# Altium schematic symbol library outros_SCHLIB.SchLib: 42 symbols
Pins are listed as number, name and electrical type; pins without a type are passive.

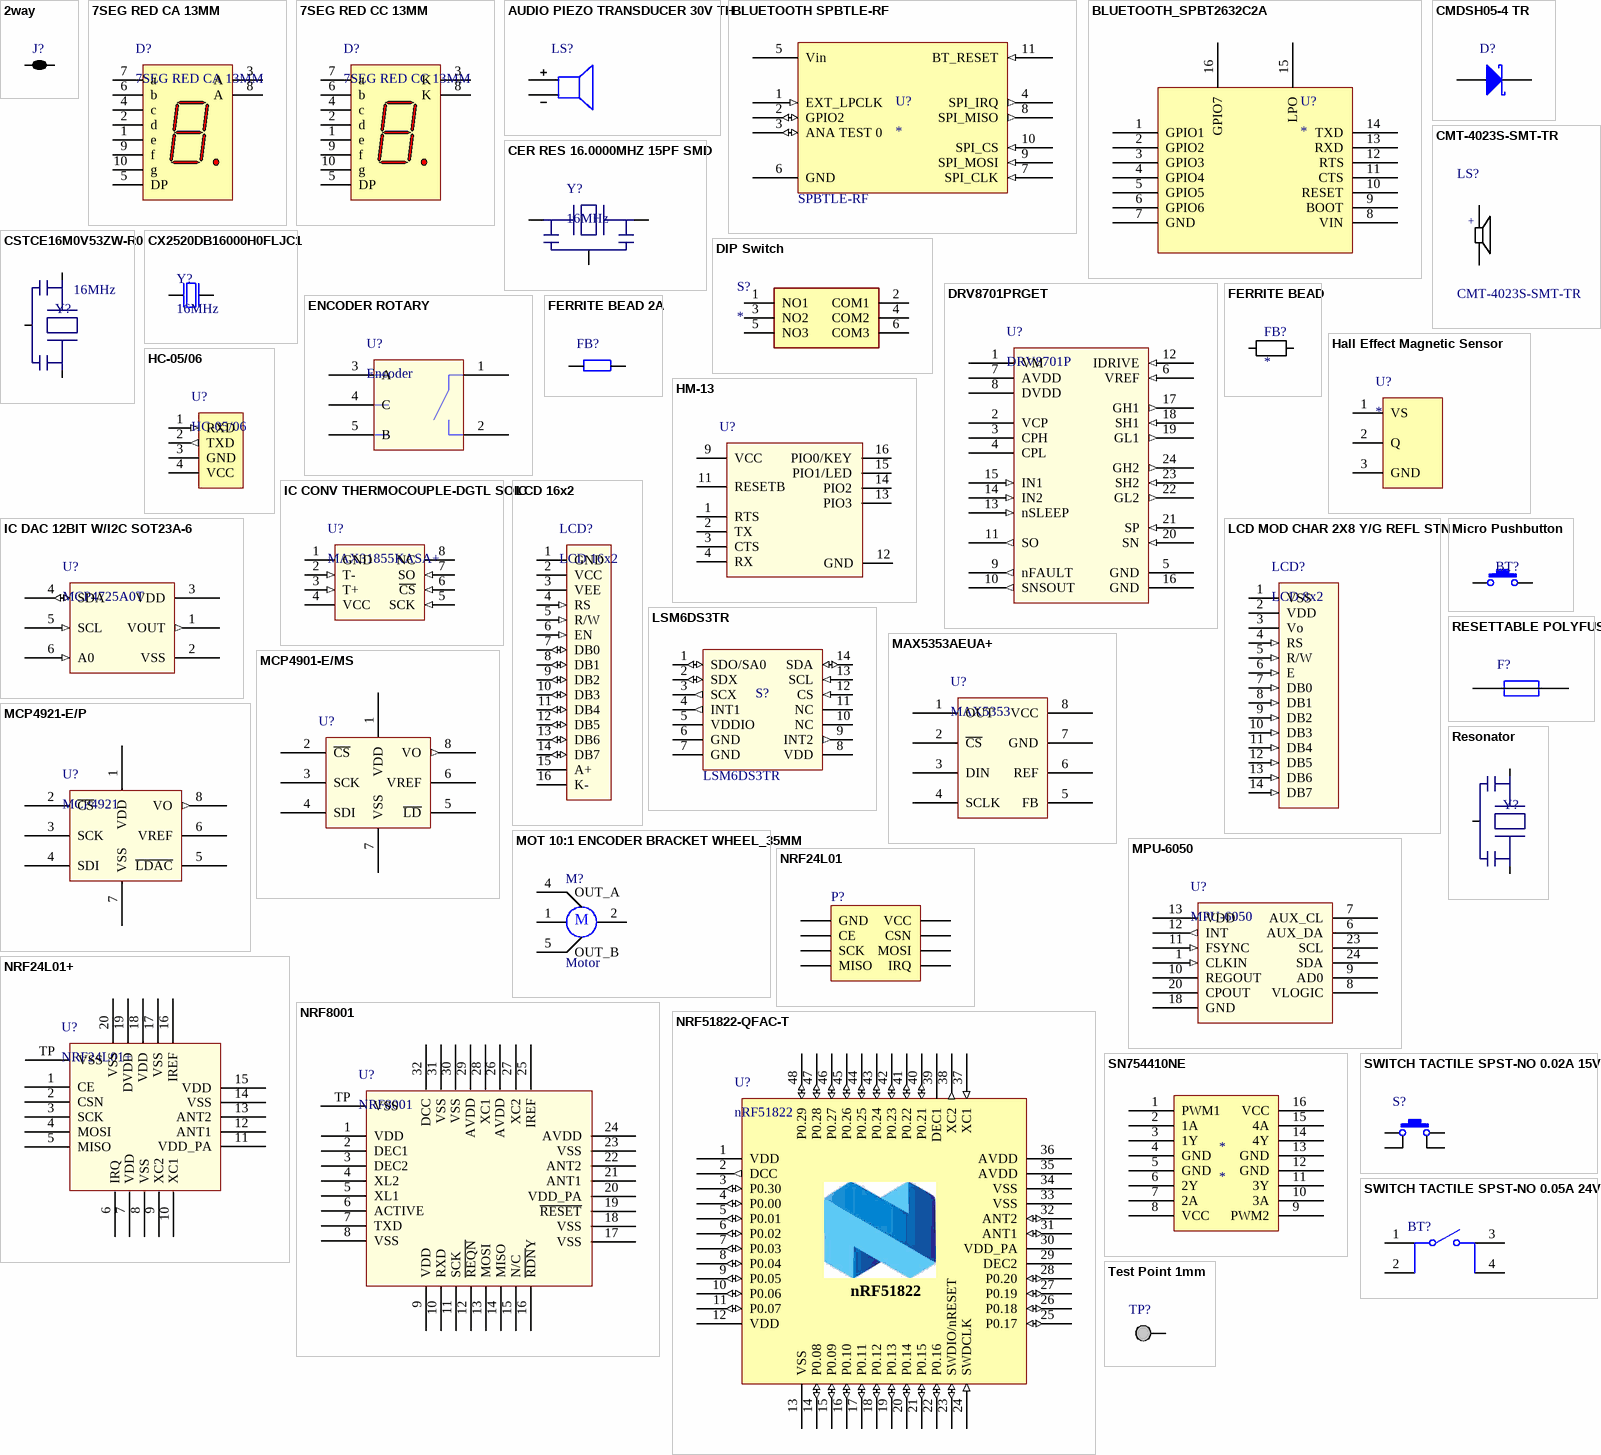
[diagram p0: symbols 2way to Test Point 1mm]

## 2way
designator J?, comment 2 way net tie junction  (value not drawn)  (net tie, no BOM)
ComponentLink1URL: http://www.edatools.cz/addons; ComponentLink1Description: Source; FootprintNote: LP=12mil, MP=40mil, HP=120mil
footprint 2way_MP (2 way medium power net tie junction)
pins: 1, 2

## 7SEG RED CA 13MM
designator D?
PHOTONIC - PHDE113A - DISPLAY, SEVEN SEGMENT, 13MM, RED; No. of Digits / Alpha: 1; Character Size: 13; Common Connection: Common Anode; Luminous Intensity: 1800 ucd; Forward Current If: 30mA; Forward Voltage: 2.1; Supplier 1: Mult Comercial; Manufacturer: Photonic; Manufacturer Part Number: PHDE113A; RoHS: YES; Stock 1: 0; Pricing 1: 1=3.70 (BRL); LED Color: Red; Packaging: Each; Colour: Red; ComponentLink1URL: http://loja.multcomercial.com.br/display-de-7-segmentos-anodo-comum-vermelho-alta-intensidade-phde113a-politronic.html; ComponentLink1Description: http://loja.multcomercial.com.br/display-de-7-segmentos-anodo-comum-vermelho-alta-intensidade-phde113a-politronic.html; ComponentLink2URL: http://www.politronic.com.br/especs/dis/PHDX113.pdf; ComponentLink2Description: http://www.politronic.com.br/especs/dis/PHDX113.pdf; Supplier Part Number 1: Display de 7 Segmentos Anodo Comum Vermelho Alta Intensidade PHDE113A - Politronic
footprint 7SEG RED PTH
pins: 1 e "Cathode", 2 d "Cathode", 3 A "Anode", 4 c "Cathode", 5 DP "Cathode", 6 b "Cathode", 7 a "Cathode", 8 A "Anode", 9 f "Cathode", 10 g "Cathode"

## 7SEG RED CC 13MM
designator D?
PHOTONIC - PHDE113K - DISPLAY, SEVEN SEGMENT, 13MM, RED; Configuration: Common Cathode; Display Type: 7 Segment; Luminous Intensity: 1800 ucd; If - Forward Current: 20 mA; Number of Digits: 1; Vf - Forward Voltage: 2.1V; Product Status: New Product; Supplier 1: Mult Comercial; Manufacturer: Photonic; Manufacturer Part Number: PHDE113K; RoHS: RoHS Compliant; Category: LED Displays & Accessories; Stock 1: 223; Pricing 1: 1=3.70 (BRL); Character Size: 13 mm; Illumination Color: Red; Operating Temperature Range: - 40 C to + 85 C; Packaging: Tube; Brand: Photonic; Mounting Style: Through Hole; Maximum Operating Temperature: + 85 C; Minimum Operating Temperature: - 40 C; Product Category: LED Displays; RoHS - Mouser: Y; Minimum Order Quantity: 1; Reeling: False; ComponentLink1URL: http://loja.multcomercial.com.br/display-de-7-segmentos-catodo-comum-vermelho-alta-intensidade-phde113k-politronic.html; ComponentLink1Description: http://loja.multcomercial.com.br/display-de-7-segmentos-catodo-comum-vermelho-alta-intensidade-phde113k-politronic.html; Supplier Part Number 1: Display de 7 Segmentos Catodo Comum Vermelho Alta Intensidade PHDE113K - Politronic
footprint 7SEG RED PTH
pins: 1 e "Anode", 2 d "Anode", 3 K "Cathode", 4 c "Anode", 5 DP "Anode", 6 b "Anode", 7 a "Anode", 8 K "Cathode", 9 f "Anode", 10 g "Anode"

## AUDIO PIEZO TRANSDUCER 30V TH
designator LS?, comment Buzzer  (value not drawn)
AUDIO PIEZO TRANSDUCER 30V TH; Manufacturer: TDK Corporation; Manufacturer Part Number: PS1240P02BT; Driver Circuitry: Transducer, Externally Driven; Input Type: Zero-Peak Signal; Voltage - Rated: 3V; Voltage Range: 30V (Max); Frequency: 4kHz; Operating Mode: Single Tone; Sound Pressure Level: 60dB @ 3V, 10cm; Port Location: Top; Supplier 1: Digi-Key; RoHS: RoHS Compliant; Category: Audio Products; Stock 1: 23730; Pricing 1: 1=0.72, 10=0.622, 100=0.3889, 250=0.37776 (USD); Packaging: Cut Tape (CT); Part Status: Active; Technology: Piezo; Duration: -; Current - Supply: -; Operating Temperature: -10°C ~ 70°C; Approvals: -; Ratings: -; Mounting Type: Through Hole; Termination: PC Pins; Size / Dimension: 0.480" Dia (12.20mm); Height - Seated (Max): 0.307" (7.80mm); ComponentLink1URL: https://product.tdk.com/info/en/catalog/datasheets/ef532_ps.pdf; ComponentLink1Description: https://product.tdk.com/info/en/catalog/datasheets/ef532_ps.pdf; Supplier Part Number 1: 445-2525-1-ND
footprint BUZZER 12x6MM
pins: 1, 2

## BLUETOOTH SPBTLE-RF
designator U?  Supplier Part Number 1: SPBTLE-RF
RF TXRX MOD BLUETOOTH CHIP ANT; Manufacturer: STMicroelectronics; Protocol: Bluetooth v4.1; Frequency: 2.4GHz; Power - Output: 4dBm; Sensitivity: -88dBm; Serial Interfaces: SPI; Antenna Type: Integrated, Chip; Voltage - Supply: 1.7 V ~ 3.6 V; Current - Receiving: 8.5mA; Supplier 1: Digi-Key; Manufacturer Part Number: SPBTLE-RF; RoHS: RoHS Compliant; Category: RF/IF and RFID; Stock 1: 1324; Pricing 1: 1=11.19, 10=10.105, 100=8.366, 500=7.285, 1000=6.345 (USD); Packaging: Tray; Part Status: Active; RF Family/Standard: Bluetooth; Modulation: -; Data Rate: -; Memory Size: -; Current - Transmitting: 8.5mA; Mounting Type: Surface Mount; Operating Temperature: -40°C ~ 85°C; Package / Case: 11-SMD Module; ComponentLink1URL: http://www.st.com/content/ccc/resource/technical/document/datasheet/48/74/89/26/50/8d/4e/33/DM00184006.pdf/files/DM00184006.pdf/jcr:content/translations/en.DM00184006.pdf; ComponentLink1Description: http://www.st.com/content/ccc/resource/technical/document/datasheet/48/74/89/26/50/8d/4e/33/DM00184006.pdf/files/DM00184006.pdf/jcr:content/translations/en.DM00184006.pdf
footprint SPBTLE-RF (SPBTLE-RF BLUETOOTH MODULE)
pins: 1 EXT_LPCLK (in), 2 GPIO2 (io), 3 ANA TEST 0 (io), 4 SPI_IRQ (out), 5 Vin (power), 6 GND (power), 7 SPI_CLK (in), 8 SPI_MISO (out), 9 SPI_MOSI (in), 10 SPI_CS (in), 11 BT_RESET (in)

## BLUETOOTH_SPBT2632C2A
designator U?
Manufacturer: STMicroelectronics; Manufacturer Part Number: SPBT2632C2A.AT2; RF Family/Standard: Bluetooth; Protocol: Bluetooth v3.1; Frequency: 2.4GHz; Data Rate: 560kbps; Power - Output: 0dBm; Sensitivity: -86dBm; Serial Interfaces: UART; Antenna Type: Integrated, Chip; Memory Size: 256kB Flash, 48kB RAM; Voltage - Supply: 2.5V; Current - Receiving: 2.7mA; Current - Transmitting: 11.2mA; Supplier 1: Digi-Key; RoHS: RoHS Compliant; Category: RF/IF and RFID; Stock 1: 1786; Pricing 1: 1=13.56, 10=12.455, 100=10.5193, 500=9.35764, 1000=8.58321 (GBP); Packaging: Tray; Part Status: Active; Modulation: -; Mounting Type: Surface Mount; Operating Temperature: -40°C ~ 85°C; Package / Case: Module; ComponentLink1URL: http://www.st.com/content/ccc/resource/technical/document/datasheet/2c/4e/6f/76/81/4f/4b/d4/DM00048919.pdf/files/DM00048919.pdf/jcr:content/translations/en.DM00048919.pdf; ComponentLink1Description: http://www.st.com/content/ccc/resource/technical/document/datasheet/2c/4e/6f/76/81/4f/4b/d4/DM00048919.pdf/files/DM00048919.pdf/jcr:content/translations/en.DM00048919.pdf; Supplier Part Number 1: 497-13189-ND
footprint Bluetooth_SPBT2632C2A
pins: 1 GPIO1, 2 GPIO2, 3 GPIO3, 4 GPIO4, 5 GPIO5, 6 GPIO6, 7 GND, 8 VIN, 9 BOOT, 10 RESET, 11 CTS, 12 RTS, 13 RXD, 14 TXD, 15 LPO, 16 GPIO7

## CER RES 16.0000MHZ 15PF SMD
designator Y?, comment 16MHz
CER RES 16.0000MHZ 15PF SMD; Manufacturer: Murata Electronics North America; Manufacturer Part Number: CSTCE16M0V53-R0; Frequency Stability: ±0.3%; Frequency Tolerance: ±0.5%; Supplier 1: Digi-Key; RoHS: RoHS Compliant; Category: Crystals and Oscillators; Stock 1: 39156; Pricing 1: 1=0.48, 10=0.4, 50=0.3602, 100=0.3205, 500=0.30368, 1000=0.25637 (USD); Packaging: Cut Tape (CT); Part Status: Active; Type: Ceramic; Frequency: 16MHz; Features: Built in Capacitor; Capacitance: 15pF; Impedance: -; Operating Temperature: -20°C ~ 80°C; Mounting Type: Surface Mount; Package / Case: 3-SMD, Non-Standard; Size / Dimension: 0.126" L x 0.051" W (3.20mm x 1.30mm); Height: 0.039" (1.00mm); ComponentLink1URL: http://www.murata.com/~/media/webrenewal/support/library/catalog/products/timingdevice/ceralock/p16e.ashx; ComponentLink1Description: http://www.murata.com/~/media/webrenewal/support/library/catalog/products/timingdevice/ceralock/p16e.ashx; Supplier Part Number 1: 490-1198-1-ND
footprint CSTCE
pins: 1, 2 GND, 3 10

## CMDSH05-4 TR
designator D?, comment 0.47V/0.5A  (value not drawn)
DIODE SCHOTTKY 40V 500MA SOD323; Manufacturer: Central Semiconductor Corp; Manufacturer Part Number: CMDSH05-4 TR; Voltage - Forward (Vf) (Max) @ If: 470mV @ 500mA; Speed: Fast Recovery =< 500ns, > 200mA (Io); Current - Reverse Leakage @ Vr: 100µA @ 30V; Capacitance @ Vr, F: 50pF @ 1V, 1MHz; Supplier 1: Digi-Key; RoHS: RoHS Compliant; Category: Discrete Semiconductor Products; Stock 1: 8510; Pricing 1: 1=0.4, 10=0.371, 25=0.3248, 100=0.2781, 250=0.2412, 500=0.2043, 750=0.1764, 1000=0.1575 (USD); Packaging: Cut Tape (CT); Diode Type: Schottky; Voltage - DC Reverse (Vr) (Max): 40V; Current - Average Rectified (Io): 500mA; Reverse Recovery Time (trr): -; Mounting Type: Surface Mount; Package / Case: SC-76, SOD-323; Supplier Device Package: SOD-323; Operating Temperature - Junction: -65°C ~ 150°C; ComponentLink1URL: http://www.centralsemi.com/PDFs/products/CMDSH05-4.PDF; ComponentLink1Description: http://www.centralsemi.com/PDFs/products/CMDSH05-4.PDF; Supplier Part Number 1: CMDSH05-4 CT-ND
pins: 1 A, 2 K

## CMT-4023S-SMT-TR
designator LS?
CMT Series Square 4 x 2 mm 4 kHz 3 V 70 dBA SMT Magnetic Buzzer Transducer; MF: CUI; MP: CMT-4023S-SMT-TR; SnapEDA_Link: https://www.snapeda.com/parts/CMT-4023S-SMT-TR/CUI/view-part/?ref=snap; Availability: Good; Package: SIP-1 CUI; Price: 2.84 USD; Value: *
footprint CUI_CMT-4023S-SMT-TR_CMT-4023S-SMT-TR(Primary)
pins: N, P
text: +

## CSTCE16M0V53ZW-R0
designator Y?  value 16MHz  (hidden comment: CSTCE16M0V53ZW-R0)
Resonators 16.00MHZ .5% CHIP RESONATOR; Manufacturer: Murata Electronics; Frequency: 16 MHz; Tolerance: 0.5 %; Supplier 1: Mouser; Manufacturer Part Number: CSTCE16M0V53ZW-R0; RoHS: RoHS Compliant; Category: Resonators; Stock 1: 18623; Pricing 1: 1=0.624, 10=0.416, 100=0.395, 1000=0.333, 3000=0.301, 9000=0.291, 45000=0.260 (AUD); Packaging: Reel; Series: CST; Termination Style: SMD/SMT; Type: Small-cap Chip Type; Brand: Murata Electronics; Product Category: Ceramic Resonators, SMD; Standard Pack Qty: 3000; Tradename: CERALOCK; RoHS - Mouser: Y; Minimum Order Quantity: 1; Reeling: True; ComponentLink1URL: http://www.mouser.com/ds/2/281/p16e-522700.pdf; ComponentLink1Description: http://www.mouser.com/ds/2/281/p16e-522700.pdf; Supplier Part Number 1: 81-CSTCE16M0V53ZW-R0
footprint CSTCE
pins: 1, 2 (power), 3

## CX2520DB16000H0FLJC1
designator Y?, comment 16MHz
CRYSTAL 16.0000MHZ 12PF SMD; Manufacturer: AVX Corp/Kyocera Corp; Manufacturer Part Number: CX2520DB16000H0FLJC1; Frequency Stability: ±15ppm; Frequency Tolerance: ±10ppm; ESR (Equivalent Series Resistance): 80 Ohm; Operating Mode: Fundamental; Supplier 1: Digi-Key; RoHS: RoHS Compliant; Category: Crystals and Oscillators; Stock 1: 0; Pricing 1: 1=0.72, 10=0.633, 50=0.5912, 100=0.5225, 500=0.495, 1000=0.4125 (USD); Packaging: Cut Tape (CT); Type: MHz Crystal; Frequency: 16MHz; Load Capacitance: 12pF; Operating Temperature: -30°C ~ 85°C; Ratings: AEC-Q200; Mounting Type: Surface Mount; Package / Case: 4-SMD, No Lead (DFN, LCC); Size / Dimension: 0.098" L x 0.079" W (2.50mm x 2.00mm); Height: 0.022" (0.55mm); ComponentLink1URL: http://media.digikey.com/pdf/Data%20Sheets/AVX%20PDFs/CX2520DB_USY1M-H1-16429-00_Spec.pdf; ComponentLink1Description: http://media.digikey.com/pdf/Data%20Sheets/AVX%20PDFs/CX2520DB_USY1M-H1-16429-00_Spec.pdf; Supplier Part Number 1: 1253-1717-1-ND
footprint XTAL_2520
pins: 1 IN, 2 GND hidden to GND, 3 OUT, 4 NC hidden

## DIP Switch
designator S?
DIP Switch; Manufacturer_Name: C & K COMPONENTS; Manufacturer_Part_Number: BD03; Allied_Number: 70128390; Datasheet Link: https://www.ckswitches.com/media/1331/bd.pdf; Mouser Part Number: 611-BD03; Mouser Price/Stock: https://www.mouser.com/Search/Refine.aspx?Keyword=611-BD03; RS Part Number: 7931522P; RS Price/Stock: http://uk.rs-online.com/web/p/products/7931522P; Allied Price/Stock: https://www.alliedelec.com/c-k-bd03/70128390/
footprint BD03
pins: 1 NO1, 2 COM1, 3 NO2, 4 COM2, 5 NO3, 6 COM3

## DRV8701PRGET
designator U?, comment DRV8701P
IC MOTOR GATE DVR DC 24VQFN; Manufacturer: Texas Instruments; Manufacturer Part Number: DRV8701PRGET; Motor Type - AC, DC: Brushed DC; Function: Controller - Current Management; Output Configuration: Pre-Driver - Half Bridge (2); Interface: PWM; Voltage - Supply: 0 V ~ 5.5 V; Voltage - Load: 5.9 V ~ 45 V; Supplier 1: Digi-Key; RoHS: RoHS Compliant; Category: Integrated Circuits (ICs); Stock 1: 541; Pricing 1: 1=2.89, 10=2.599, 100=2.0849 (USD); Packaging: Cut Tape (CT); Motor Type - Stepper: -; Technology: Power MOSFET; Step Resolution: -; Applications: General Purpose; Current - Output: -; Operating Temperature: -40°C ~ 125°C (TA); Mounting Type: Surface Mount; Package / Case: 24-VFQFN Exposed Pad; Supplier Device Package: 24-VQFN (4x4); ComponentLink1URL: http://www.ti.com/lit/ds/symlink/drv8701.pdf; ComponentLink1Description: http://www.ti.com/lit/ds/symlink/drv8701.pdf; Supplier Part Number 1: 296-42156-1-ND
footprint QFN24_4X4 (QFN, 24-Leads, Body 4x4mm, Pitch 0.5mm, Thermal Pad 2.8x2.8mm, IPC Medium Density)
pins: 1 VM (power), 2 VCP, 3 CPH, 4 CPL, 5 GND (power), 6 VREF (in), 7 AVDD (power), 8 DVDD (power), 9 nFAULT (out), 10 SNSOUT (out), 11 SO (out), 12 IDRIVE (in), 13 nSLEEP (in), 14 IN2 (in), 15 IN1 (in), 16 GND (power), 17 GH1 (out), 18 SH1 (in), 19 GL1 (out), 20 SN (in), 21 SP (in), 22 GL2 (out), 23 SH2 (in), 24 GH2 (out), 25 PPAD (power) hidden to GND

## ENCODER ROTARY
designator U?, comment Encoder
ENCODER ROTARY; Manufacturer: Bourns Inc.; Manufacturer Part Number: PEC11R-4215F-S0024; Encoder Type: Mechanical; Output Type: Quadrature (Incremental); Pulses per Revolution: 24; Actuator Type: 6mm Dia Flatted End; Detent: Yes; Rotational Life (Cycles Min): 30K; Supplier 1: Digi-Key; RoHS: RoHS Compliant; Category: Sensors, Transducers; Stock 1: 375; Pricing 1: 1=1.68, 10=1.566, 25=1.4792, 50=1.305, 100=1.073, 250=1.044, 500=0.986, 1000=0.928, 2500=0.87 (USD); Part Status: Active; Voltage - Supply: -; Built in Switch: Yes; Mounting Type: Panel, PCB Through Hole; Orientation: Vertical; Termination Style: PC Pin; ComponentLink1URL: http://www.bourns.com/docs/Product-Datasheets/PEC11R.pdf; ComponentLink1Description: http://www.bourns.com/docs/Product-Datasheets/PEC11R.pdf; Supplier Part Number 1: PEC11R-4215F-S0024-ND
footprint ENCODER 15MM
pins: 1, 2, 3 A, 4 C, 5 B

## FERRITE BEAD
designator FB?
Link: http://br.mouser.com/ProductDetail/Taiyo-Yuden/FBMJ1608HS220NTR/?qs=sGAEpiMZZMukHu%252bjC5l7YUIQkYUvPkOvSFo3Z3lR2w0%3d
footprint FERRITE BEAD
pins: 1 (power), 2 (power)

## FERRITE BEAD 2A
designator FB?, comment *MH2029-300Y  (value not drawn)
FERRITE BEAD 30 OHM 0805 1LN; Manufacturer: Bourns Inc.; Filter Type: Power, Signal Line; Number of Lines: 1; Impedance @ Frequency: 30 Ohm @ 100MHz; Current Rating (Max): 3A; DC Resistance (DCR) (Max): 25 mOhm; Supplier 1: Digi-Key; Manufacturer Part Number: MH2029-300Y; RoHS: RoHS Compliant; Category: Filters; Stock 1: 40536; Pricing 1: 1=0.1, 10=0.062, 25=0.0568, 50=0.051, 100=0.0375, 250=0.02724, 500=0.02498, 1000=0.02157 (USD); Packaging: Cut Tape (CT); Part Status: Active; Ratings: -; Operating Temperature: -55°C ~ 125°C; Package / Case: 0805 (2012 Metric); Mounting Type: Surface Mount; Height (Max): 0.043" (1.10mm); Size / Dimension: 0.079" L x 0.047" W (2.00mm x 1.20mm); ComponentLink1URL: http://www.bourns.com/docs/Product-Datasheets/mh.pdf; ComponentLink1Description: http://www.bourns.com/docs/Product-Datasheets/mh.pdf; Supplier Part Number 1: MH2029-300YCT-ND
footprint Ferrite 0603
pins: 1 VCC (power), 2 GND (power)

## Hall Effect Magnetic Sensor
designator U?
Board Mount Hall Effect / Magnetic Sensors HALLEFFECT IC'S; Manufacturer: Infineon; Manufacturer Part: TLE4946-2K; Maximum Output Current:: 20mA; Package / Case:: SOT-23-3; Operating Supply Voltage: 3.3 V, 5 V, 9 V, 12 V, 15 V, 18 V; Suplier: Mouser; Product Category:: Board Mount Hall Effect / Magnetic Sensors; Type: Latch; Maximum Operating Temperature:: +140 C; Mounting Style: SMD/SMT; Minimum Operating Temperature:: - 40 C; Packaging: Reel; Series: TLE4946; Mouser Part: 726-TLE49462K; SuplierLink: http://www.mouser.com/ProductDetail/Infineon-Technologies/TLE4946-2K/?qs=sGAEpiMZZMvhQj7WZhFIALEvUOvFOaC3qfpp5DqwQOk%3d; Supplier 1: Mouser; Supplier Part Number 1: 726-TLE49462K
footprint SOT23-3 (Hall Sensor)
pins: 1 VS, 2 Q, 3 GND

## HC-05/06
designator U?
HC-05/06 Bluetooth Module
footprint HC-05/06 (HC-05/06 Bluetooth Module)
pins: 1 RXD (in), 2 TXD (out), 3 GND (power), 4 VCC

## HM-13
designator U?  (value not drawn)
Bluetooth module
footprint HM-13
pins: 1 RTS, 2 TX, 3 CTS, 4 RX, 9 VCC, 11 RESETB, 12 GND, 13 PIO3, 14 PIO2, 15 PIO1/LED, 16 PIO0/KEY

## IC CONV THERMOCOUPLE-DGTL SOIC
designator U?, comment MAX31855KASA+
IC CONV THERMOCOUPLE-DGTL SOIC; Manufacturer: Maxim; Mfg Application Notes: Modern Thermocouples and a High-Resolution Delta-Sigma ADC Enable High-Precision Temperature Measurement High-Performance Temperature Measurement Using Thermocouples and Precision Delta-Sigma ADCs, Part 2 Analog Integration Drives Factory Integration; Product Training Modules: MAX3185x Thermocouple to Digital Converter Lead (SnPb) Finish for COTS Long-Term Supply Program; Reference Design Library: MAX31855EVKIT#: 14-bit Thermocouple Interface SPI; EDA / CAD Models: Download from Accelerated Designs; Input Type: Thermocouple (Multiple); Output Type: Digital; Interface: SPI; Current - Supply: 900µA; Online Catalog: Sensor and Detector Interfaces; For Use With: 1528-1000-ND / - EVAL BOARD FOR MAX31855 / MAX31855PMB1#-ND / - MODULE PERIPHERAL FOR MAX31855 / MAX31855EVKIT#-ND / - KIT EVAL FOR MAX31855 / 1286-1094-ND / - PMODTC1 MAX31855 DEV / 1568-1292-ND / - SPARKFUN THERMOCOUPLE BREAKOUT -; Other Names: 90-31855+K00; Supplier 1: Digikey; Manufacturer Part Number: MAX31855KASA+; Stock 1: 2137; Pricing 1: 1=4.5, 10=4.27, 50=4.25 (USD); Standard Package: 100; Category: Integrated Circuits (ICs); Family: Interface - Sensor and Detector Interfaces; Packaging: Tube; Type: Thermocouple to Digital Converter; Operating Temperature: -40°C ~ 125°C; Mounting Type: Surface Mount; Package / Case: 8-SOIC (0.154", 3.90mm Width); Supplier Device Package: 8-SOIC; ComponentLink1URL: https://datasheet.ciiva.com/30475/0900766b81252ffc-30475092.pdf; ComponentLink1Description: https://datasheet.ciiva.com/30475/0900766b81252ffc-30475092.pdf; ComponentLink2URL: https://datasheet.ciiva.com/16635/max31855-16635415.pdf; ComponentLink2Description: https://datasheet.ciiva.com/16635/max31855-16635415.pdf; ComponentLink3URL: https://datasheet.ciiva.com/30475/0900766b81252ffc-30475096.pdf; ComponentLink3Description: https://datasheet.ciiva.com/30475/0900766b81252ffc-30475096.pdf; ComponentLink4URL: https://datasheet.ciiva.com/2004/max31855-2004719.pdf; ComponentLink4Description: https://datasheet.ciiva.com/2004/max31855-2004719.pdf; Supplier Part Number 1: MAX31855KASA+-ND
footprint SOIC-8 M (SOIC, 8-Leads, Body 4,90x3,90mm, Pitch 1,27mm, IPC Low Density)
pins: 1 GND (power), 2 T- (in), 3 T+ (in), 4 VCC (power), 5 SCK (in), 6 ~{CS} (in), 7 SO (in), 8 NC

## IC DAC 12BIT W/I2C SOT23A-6
designator U?, comment MCP4725A0T
IC DAC 12BIT W/I2C SOT23A-6; Manufacturer: Microchip Technology; Manufacturer Part Number: MCP4725A0T-E/CH; Number of Bits: 12; Number of D/A Converters: 1; Settling Time: 6µs (Typ); Output Type: Voltage - Buffered; Differential Output: No; Data Interface: I²C; Reference Type: Supply; Voltage - Supply, Analog: 2.7 V ~ 5.5 V; INL/DNL (LSB): ±2, ±0.2; Architecture: String DAC; Supplier 1: Digi-Key; RoHS: RoHS Compliant; Category: Integrated Circuits (ICs); Stock 1: 13296; Pricing 1: 1=0.96, 25=0.8, 100=0.73 (USD); Packaging: Cut Tape (CT); Part Status: Active; Voltage - Supply, Digital: 2.7 V ~ 5.5 V; Operating Temperature: -40°C ~ 125°C; Package / Case: SOT-23-6; Supplier Device Package: SOT-23-6; ComponentLink1URL: http://www.microchip.com/mymicrochip/filehandler.aspx?ddocname=en532676; ComponentLink1Description: http://www.microchip.com/mymicrochip/filehandler.aspx?ddocname=en532676; Supplier Part Number 1: MCP4725A0T-E/CHCT-ND
footprint SOT23-6 N
pins: 1 VOUT (out), 2 VSS (power), 3 VDD (power), 4 SDA (io), 5 SCL (in), 6 A0 (in)

## LCD 16x2
designator LCD?
Display LCD 16x2
footprint Display LCD 16x2 (Display LCD 16x2; Body 80.0 x 36.0 mm)
pins: 1 GND (power), 2 VCC (power), 3 VEE, 4 RS (in), 5 R/W (in), 6 EN (in), 7 DB0 (io), 8 DB1 (io), 9 DB2 (io), 10 DB3 (io), 11 DB4 (io), 12 DB5 (io), 13 DB6 (io), 14 DB7 (io), 15 A+, 16 K-

## LCD MOD CHAR 2X8 Y/G REFL STN
designator LCD?, comment LCD 8x2
LCD MOD CHAR 2X8 Y/G REFL STN; Manufacturer: Newhaven Display Intl; Manufacturer Part Number: NHD-0208AZ-RN-YBW-33V; Number of Characters: 16; Character Format: 5 x 8 Dots; Display Type: STN - Super-Twisted Nematic; Display Mode: Reflective; Character Size: 4.75mm H x 2.95mm W; Outline L x W x H: 40.00mm x 35.40mm x 8.00mm; Viewing Area: 30.40mm L x 13.90mm W; Backlight: Without Backlight; Voltage - Supply: 3.3 V ~ 5.5 V; Dot Size: 0.55mm W x 0.55mm H; Interface: Parallel; Text Color: Blue; Background Color: Green; Supplier 1: Digi-Key; RoHS: RoHS Compliant; Category: Optoelectronics; Stock 1: 143; Pricing 1: 1=8.25, 5=7.756, 10=7.26, 50=6.8476, 100=6.5175, 250=6.18752, 500=5.94002 (USD); Part Status: Active; Display Format: 8 x 2; Operating Temperature: -20°C ~ 70°C; ComponentLink1URL: http://www.newhavendisplay.com/specs/NHD-0208AZ-RN-YBW-33V.pdf; ComponentLink1Description: http://www.newhavendisplay.com/specs/NHD-0208AZ-RN-YBW-33V.pdf; Supplier Part Number 1: NHD-0208AZ-RN-YBW-33V-ND
footprint LCD 2X8
pins: 1 VSS (power), 2 VDD (power), 3 Vo, 4 RS (in), 5 R/W (in), 6 E (in), 7 DB0 (in), 8 DB1 (in), 9 DB2 (in), 10 DB3 (in), 11 DB4 (in), 12 DB5 (in), 13 DB6 (in), 14 DB7 (in)

## LSM6DS3TR
designator S?  Manufacturer Part Number: LSM6DS3TR  (hidden comment: *)
STMICROELECTRONICS         LSM6DS3TR             MEMS Module, Tri-Axis Gyroscope, Tri-Axis Accelerometer, 1.71 V, 3.6 V, LGA, 14 Pins; Max Processing Temp: 260; Sensing Distance: 2|4|6|8|16 G; Typical Supply Current: 1.25 Milliamps; Operating Supply Voltage: 1.8 volt; Screening Level: Industrial; Lead Finish: Gold Over Nickel; Output Type: Digital; Number of Axis: 3; Supplier 1: Digi-Key; Manufacturer: STMicroelectronics; Stock 1: 4620; Pricing 1: 1=3.01, 10=2.699, 100=2.2114, 500=1.8825 (USD); Operating Temperature: -40 to 85 C; Type: Accelerometer and Gyroscope; Mounting: Surface Mount; ComponentLink1URL: http://www.farnell.com/datasheets/1992926.pdf; ComponentLink1Description: http://www.farnell.com/datasheets/1992926.pdf; ComponentLink2URL: http://www.st.com/st-web-ui/static/active/en/resource/technical/document/datasheet/DM00133076.pdf; ComponentLink2Description: http://www.st.com/st-web-ui/static/active/en/resource/technical/document/datasheet/DM00133076.pdf; Supplier Part Number 1: 497-15383-1-ND
footprint LGA-14
pins: 1 SDO/SA0 (io), 2 SDX (io), 3 SCX (out), 4 INT1 (out), 5 VDDIO, 6 GND, 7 GND, 8 VDD, 9 INT2 (out), 10 NC, 11 NC, 12 CS (in), 13 SCL (in), 14 SDA (io)

## MAX5353AEUA+
designator U?, comment MAX5353
IC DAC 12BIT VOLT OUT SER 8-UMAX; Manufacturer: Maxim Integrated; Manufacturer Part Number: MAX5353AEUA+; Number of Bits: 12; Number of D/A Converters: 1; Settling Time: 14µs (Typ); Output Type: Voltage - Buffered; Differential Output: No; Data Interface: SPI; Reference Type: External; Voltage - Supply, Analog: 3.15 V ~ 3.6 V; INL/DNL (LSB): ±1 (Max), ±1 (Max); Architecture: R-2R; Supplier 1: Digi-Key; RoHS: RoHS Compliant; Category: Integrated Circuits (ICs); Stock 1: 64; Pricing 1: 1=8.02, 50=8.0198 (USD); Packaging: Tube; Part Status: Active; Voltage - Supply, Digital: 3.15 V ~ 3.6 V; Operating Temperature: -40°C ~ 85°C; Package / Case: 8-TSSOP, 8-MSOP (0.118", 3.00mm Width); Supplier Device Package: 8-uMAX; ComponentLink1URL: http://datasheets.maximintegrated.com/en/ds/MAX5352-MAX5353.pdf; ComponentLink1Description: http://datasheets.maximintegrated.com/en/ds/MAX5352-MAX5353.pdf; Supplier Part Number 1: MAX5353AEUA+-ND
pins: 1 OUT, 2 ~{CS}, 3 DIN, 4 SCLK, 5 FB, 6 REF, 7 GND, 8 VCC

## MCP4901-E/MS
designator U?, comment MCP4901  (value not drawn)
DAC 8BIT SGL W/SPI 8MSOP; Manufacturer: Microchip Technology; Manufacturer Part Number: MCP4901-E/MS; Number of Bits: 8; Number of D/A Converters: 1; Settling Time: 4.5µs (Typ); Output Type: Voltage - Buffered; Differential Output: No; Data Interface: SPI; Reference Type: External; Voltage - Supply, Analog: 2.7 V ~ 5.5 V; INL/DNL (LSB): ±0.25, ±0.2; Architecture: String DAC; Supplier 1: Digi-Key; RoHS: RoHS Compliant; Category: Integrated Circuits (ICs); Stock 1: 384; Pricing 1: 1=0.99, 25=0.824, 100=0.7519 (USD); Packaging: Tube; Part Status: Active; Voltage - Supply, Digital: 2.7 V ~ 5.5 V; Operating Temperature: -40°C ~ 125°C; Package / Case: 8-TSSOP, 8-MSOP (0.118", 3.00mm Width); Supplier Device Package: 8-MSOP; ComponentLink1URL: http://www.microchip.com/mymicrochip/filehandler.aspx?ddocname=en547911; ComponentLink1Description: http://www.microchip.com/mymicrochip/filehandler.aspx?ddocname=en547911; Supplier Part Number 1: MCP4901-E/MS-ND
footprint DIP8
pins: 1 VDD (power), 2 ~{CS}, 3 SCK, 4 SDI, 5 ~{LD}, 6 VREF (power), 7 VSS (power), 8 VO (out)

## MCP4921-E/P
designator U?, comment MCP4921
IC DAC 12BIT SNGL W/SPI 8DIP; Manufacturer: Microchip Technology; Manufacturer Part Number: MCP4921-E/P; Number of Bits: 12; Number of D/A Converters: 1; Settling Time: 4.5µs (Typ); Output Type: Voltage - Buffered; Differential Output: No; Data Interface: SPI; Reference Type: External; Voltage - Supply, Analog: 2.7 V ~ 5.5 V; INL/DNL (LSB): ±4, ±0.25; Architecture: String DAC; Supplier 1: Digi-Key; RoHS: RoHS Compliant; Category: Integrated Circuits (ICs); Stock 1: 3648; Pricing 1: 1=2.03, 25=1.6892, 100=1.5347 (USD); Packaging: Tube; Part Status: Active; Voltage - Supply, Digital: 2.7 V ~ 5.5 V; Operating Temperature: -40°C ~ 125°C; Package / Case: 8-DIP (0.300", 7.62mm); Supplier Device Package: 8-PDIP; ComponentLink1URL: http://www.microchip.com/mymicrochip/filehandler.aspx?ddocname=en547911; ComponentLink1Description: http://www.microchip.com/mymicrochip/filehandler.aspx?ddocname=en547911; Supplier Part Number 1: MCP4921-E/P-ND
footprint DIP8
pins: 1 VDD (power), 2 ~{CS}, 3 SCK, 4 SDI, 5 ~{LDAC}, 6 VREF (power), 7 VSS (power), 8 VO (out)

## Micro Pushbutton
designator BT?  (value not drawn)
Tactile Switches 3.5x6mm 160gf BROWN; Manufacturer: Mountain Switch; Manufacturer Part Number: 101-TS3724T1600-EV; Actuator: Rectangular; Current Rating: 50 mA; Illumination: None; Operating Force: 1.6 N; Voltage Rating DC: 12 V; Stem Height: 2.5 mm; Unit Weight: 0.003005 oz; Supplier 1: Mouser; Stock 1: 14049; Pricing 1: 1=0.75, 50=0.594, 100=0.484, 500=0.407, 1000=0.352, 2800=0.308, 5600=0.275, 8400=0.242, 22400=0.22 (USD); Brand: Mountain Switch; Color: Brown; Contact Plating: Silver; Factory Pack Quantity: 2800; Product Category: Tactile Switches; RoHS: Details; Mounting Style: SMD/SMT; Packaging: Reel; Operating Temperature Range: - 25 C to + 70 C; Series: TS; Termination Style: Gull Wing Lead; ComponentLink1URL: https://datasheet.ciiva.com/5284/ms-100619-199644-5284215.pdf; ComponentLink1Description: https://datasheet.ciiva.com/5284/ms-100619-199644-5284215.pdf; Supplier Part Number 1: 101-TS3724T1600-EV
footprint uTACT SWITCH
pins: 1, 2

## MOT 10:1 ENCODER BRACKET WHEEL_35MM
designator M?, comment Motor
Pololu Micro Gear Motor 10:1 + Magnetic Encoder + Bracket + BaneBots Wheel; Manufacturer Part Number: 10:1 MICRO METAL GEARMOTOR; Unit: pcs; SuppliedAmount: 1; Motor type: DC; Supply voltage: 3...9V DC; Transformation ratio: 298:1; Double sided shaft: yes; Torque: max. 284mNm; Operating current max.: 1600mA; Operating current: 120mA; Shaft diameter: 3mm; Shaft surface: D spring; Nominal rotational speed: 3000rpm; Supplier 1: TME; Manufacturer: POLOLU; Category: Micromotors and Accessories; Stock 1: 0; Pricing 1: 1=25.95 (USD); Weight: 10,504; MinAmount: 1; Multiples: 1; Series: High Power; Dimensions: 26 x 10 x 12mm; ComponentLink1URL: https://www.pololu.com/product/2211; ComponentLink1Description: https://www.pololu.com/product/2211; Supplier Part Number 1: 2211; ComponentLink2Description: https://www.pololu.com/product/2598; ComponentLink2URL: https://www.pololu.com/product/2598; ComponentLink3Description: https://www.pololu.com/product/989; ComponentLink3URL: https://www.pololu.com/product/989; ComponentLink4Description: http://www.banebots.com/product/T40P-143BG-HS4.html; ComponentLink4URL: http://www.banebots.com/product/T40P-143BG-HS4.html
footprint MOT POLOLU ENCODER BRACKET 35MM_WHEEL (Chip Capacitor, 2-Leads, Body 1,60x0,80mm, IPC Medium Density)
pins: 1 M1, 2 M2, 3 VCC (power) hidden to VCC, 4 OUT_A, 5 OUT_B, 6 GND (power) hidden to GND
text: M

## MPU-6050
designator U?
GYRO/ACCELEROMETER 6AXIS 24QFN; Manufacturer: InvenSense; Sensor Type: Accelerometer, Gyroscope, 3 Axis; Output Type: I²C; Supplier 1: Digi-Key; Manufacturer Part Number: MPU-6050; RoHS: RoHS Compliant; Category: Sensors, Transducers; Stock 1: 5816; Pricing 1: 1=8.25, 5=7.232, 10=6.509, 25=5.786, 50=5.352, 100=4.6288, 500=4.3395, 1000=4.0502 (USD); Operating Temperature: -40°C ~ 85°C (TA); ComponentLink1URL: http://store.invensense.com/datasheets/invensense/MPU-6050_DataSheet_V3%204.pdf; ComponentLink1Description: http://store.invensense.com/datasheets/invensense/MPU-6050_DataSheet_V3%204.pdf; Supplier Part Number 1: 1428-1007-1-ND
footprint QFN24_4X4 (QFN, 24-Leads, Body 4x4mm, Pitch 0.5mm, Thermal Pad 2.8x2.8mm, IPC Medium Density)
pins: 1 CLKIN (in), 2 NC hidden, 3 NC hidden, 4 NC hidden, 5 NC hidden, 6 AUX_DA (oc), 7 AUX_CL (oc), 8 VLOGIC (power), 9 AD0, 10 REGOUT (power), 11 FSYNC (in), 12 INT (out), 13 VDD (power), 14 NC hidden, 15 NC hidden, 16 NC hidden, 17 NC hidden, 18 GND (power), 19 RSV hidden, 20 CPOUT, 21 hidden, 22 RSV hidden, 23 SCL (oc), 24 SDA (oc)

## NRF24L01
designator P?, comment Header 3X2  (value not drawn)
Header, 3-Pin, Dual row; LatestRevisionDate: 17-Jul-2002; LatestRevisionNote: Re-released for DXP Platform.; Publisher: Altium Limited; ComponentLink1Description: https://www.filipeflop.com/produto/nrf24l01-wireless-transceiver-24ghz/; ComponentLink1URL: https://www.filipeflop.com/produto/nrf24l01-wireless-transceiver-24ghz/
signal-integrity model Connector
footprint NRF24L01 (Connector; Header; 6 Position)
pins: 1 GND, 2 VCC, 3 CE, 4 CSN, 5 SCK, 6 MOSI, 7 MISO, 8 IRQ

## NRF24L01+
designator U?
IC RF TXRX ISM>1GHZ 20-VFQFN; Manufacturer: Nordic Semiconductor ASA; Manufacturer Part Number: NRF24L01P-T; RF Family/Standard: General ISM > 1GHZ; Modulation: GFSK; Frequency: 2.4GHz; Data Rate (Max): 2Mbps; Power - Output: 0dBm; Sensitivity: -94dBm; Serial Interfaces: SPI; Voltage - Supply: 1.9 V ~ 3.6 V; Current - Receiving: 12.6mA ~ 13.5mA; Current - Transmitting: 7mA ~ 11.3mA; Supplier 1: Digi-Key; RoHS: RoHS Compliant; Category: RF/IF and RFID; Stock 1: 4391; Pricing 1: 1=3.36, 10=3, 25=2.7, 100=2.46, 250=2.22, 500=1.992, 1000=1.68, 5000=1.53 (USD); Packaging: Tray; Part Status: Active; Type: TxRx Only; Protocol: -; Memory Size: -; GPIO: -; Operating Temperature: -40°C ~ 85°C; Package / Case: 20-VFQFN Exposed Pad; ComponentLink1URL: http://www.nordicsemi.com/eng/content/download/2726/34069/file/nRF24L01P_Product_Specification_1_0.pdf; ComponentLink1Description: http://www.nordicsemi.com/eng/content/download/2726/34069/file/nRF24L01P_Product_Specification_1_0.pdf; Supplier Part Number 1: 1490-1019-ND
footprint QFN20 (QFN, 20-Leads, Body 4,00x4,00mm, Pitch 0,50mm, Thermal Pad 2,60x2,60mm, IPC Medium Density)
pins: 1 CE, 2 CSN, 3 SCK, 4 MOSI, 5 MISO, 6 IRQ, 7 VDD (power), 8 VSS (power), 9 XC2, 10 XC1, 11 VDD_PA, 12 ANT1, 13 ANT2, 14 VSS (power), 15 VDD (power), 16 IREF, 17 VSS (power), 18 VDD (power), 19 DVDD (power), 20 VSS (power), TP VSS

## NRF8001
designator U?
IC RF TXRX BLUETOOTH 32-VFQFN; Manufacturer: Nordic Semiconductor ASA; Manufacturer Part Number: NRF8001-R2Q32-T; Protocol: Bluetooth v4.0; Modulation: GFSK; Frequency: 2.4GHz; Data Rate (Max): 1Mbps; Power - Output: 0dBm; Sensitivity: -87dBm; Serial Interfaces: I²C, SPI, UART; Voltage - Supply: 1.9 V ~ 3.6 V; Current - Receiving: 11.1mA ~ 14.6mA; Current - Transmitting: 6.6mA ~ 12.7mA; Supplier 1: Digi-Key; RoHS: RoHS Compliant; Category: RF/IF and RFID; Stock 1: 7648; Pricing 1: 1=4.26, 10=3.8, 25=3.42, 100=3.116, 250=2.812, 500=2.5232, 1000=2.128, 5000=1.938 (USD); Packaging: Tray; Part Status: Active; Type: TxRx Only; RF Family/Standard: Bluetooth; Memory Size: -; GPIO: -; Operating Temperature: -40°C ~ 85°C; Package / Case: 32-VFQFN Exposed Pad; ComponentLink1URL: http://www.nordicsemi.com/eng/content/download/2981/38488/file/nRF8001_PS_v1.2.pdf; ComponentLink1Description: http://www.nordicsemi.com/eng/content/download/2981/38488/file/nRF8001_PS_v1.2.pdf; Supplier Part Number 1: 1490-1026-ND
footprint QFN32 (QFN, 32-Leads, Body 5,00x5,00mm, Pitch 0,50mm, Thermal Pad 3,60x3,60mm, IPC Medium Density)
pins: 1 VDD (power), 2 DEC1, 3 DEC2, 4 XL2, 5 XL1, 6 ACTIVE, 7 TXD, 8 VSS (power), 9 VDD (power), 10 RXD, 11 SCK, 12 ~{REQN}, 13 MOSI, 14 MISO, 15 N/C, 16 ~{RDN}Y, 17 VSS (power), 18 VSS (power), 19 ~{RESET}, 20 VDD_PA (power), 21 ANT1, 22 ANT2, 23 VSS (power), 24 AVDD (power), 25 IREF, 26 AVDD (power), 27 XC2, 28 XC1, 29 AVDD (power), 30 VSS (power), 31 VSS (power), 32 DCC, TP VSS (power)

## NRF51822-QFAC-T
designator U?, comment nRF51822
IC RF TXRX+MCU BLUETOOTH 48VFQFN; Manufacturer: Nordic Semiconductor ASA; Manufacturer Part Number: NRF51822-QFAC-T; RF Family/Standard: Bluetooth, General ISM > 1GHz; Protocol: Bluetooth v4.0; Modulation: GFSK; Frequency: 2.4GHz; Data Rate (Max): 2Mbps; Power - Output: 4dBm; Sensitivity: -96dBm; Memory Size: 256kB Flash, 32kB RAM; Serial Interfaces: I²C, SPI, UART; GPIO: 32; Voltage - Supply: 1.8 V ~ 3.6 V; Current - Receiving: 9.7mA ~ 13.4mA; Current - Transmitting: 4.7mA ~ 16mA; Supplier 1: Digi-Key; RoHS: RoHS Compliant; Category: RF/IF and RFID; Stock 1: 1067; Pricing 1: 1=4.96, 10=4.425, 25=3.9824, 100=3.6285, 250=3.27452, 500=2.9382, 1000=2.478, 5000=2.25675, 10000=2.1948 (USD); Packaging: Tray; Type: TxRx + MCU; Operating Temperature: -25°C ~ 75°C; Package / Case: 48-VFQFN Exposed Pad; ComponentLink1URL: http://www.nordicsemi.com/eng/nordic/download_resource/20351/11/97998644; ComponentLink1Description: http://www.nordicsemi.com/eng/nordic/download_resource/20351/11/97998644; Supplier Part Number 1: 1490-1050-ND
footprint QFN48_6X6 (QFN, 48-Leads, Body 6x6mm, Pitch 0.4mm, Thermal Pad 4.1x4.1mm, IPC Medium Density)
pins: 1 VDD (power) "Power supply", 2 DCC (out) "DC/DC output to LC filter", 3 P0.30 (io) "GPIO", 4 P0.00 (io) "GPIO/AREF0", 5 P0.01 (io) "GPIO/AIN2", 6 P0.02 (io) "GPIO/AIN3", 7 P0.03 (io) "GPIO/AIN4", 8 P0.04 (io) "GPIO/AIN5", 9 P0.05 (io) "GPIO/AIN6", 10 P0.06 (io) "GPIO/AIN7/AREF1", 11 P0.07 (io) "GPIO", 12 VDD (power) "Power supply", 13 VSS (power) "Ground (0V)", 14 P0.08 (io) "GPIO", 15 P0.09 (io) "GPIO", 16 P0.10 (io) "GPIO", 17 P0.11 (io) "GPIO", 18 P0.12 (io) "GPIO", 19 P0.13 (io) "GPIO", 20 P0.14 (io) "GPIO", 21 P0.15 (io) "GPIO", 22 P0.16 (io) "GPIO", 23 SWDIO/nRESET (io) "Active low RESET/Programming and debugging I/O", 24 SWDCLK (in) "Programming and debugging I/O", 25 P0.17 (io) "GPIO", 26 P0.18 (io) "GPIO", 27 P0.19 (io) "GPIO", 28 P0.20 (io) "GPIO", 29 DEC2 (power) "Power supply decoupling", 30 VDD_PA (power) "Power supply for RF amp.", 31 ANT1 (io) "Differential antenna connection", 32 ANT2 (io) "Differential antenna connection", 33 VSS (power) "Ground (0V)", 34 VSS (power) "Ground (0V)", 35 AVDD (power) "Analog power supply (radio)", 36 AVDD (power) "Analog power supply (radio)", 37 XC1 (in) "Connection for 16MHz reference", 38 XC2 (out) "Connection for 16MHz reference", 39 DEC1 (power) "Power supply decoupling", 40 P0.21 (io) "GPIO", 41 P0.22 (io) "GPIO", 42 P0.23 (io) "GPIO", 43 P0.24 (io) "GPIO", 44 P0.25 (io) "GPIO", 45 P0.26 (io) "GPIO/AIN0/XL2", 46 P0.27 (io) "GPIO/AIN1/XL1", 47 P0.28 (io) "GPIO", 48 P0.29 (io) "GPIO", 49 TPAD (power) hidden to GND "Power pad - connect to GND"

## RESETTABLE POLYFUSE
designator F?, comment MF-MSMF050-2  (value not drawn)
FUSE 0.5A 15V 1812; Manufacturer: Bourns Inc.; Current - Max: 100A; Current - Hold (Ih) (Max): 500mA; Current - Trip (It): 1A; R Min/Max: 0.150 ~ 1.000 Ohm; Time to Trip: 0.15s; Supplier 1: Digi-Key; Manufacturer Part Number: MF-MSMF050-2; RoHS: RoHS Compliant; Category: Circuit Protection; Stock 1: 62860; Pricing 1: 1=0.23, 5=0.22, 10=0.211, 50=0.1882, 100=0.1752, 250=0.15576, 500=0.1298, 1000=0.12331 (USD); Packaging: Cut Tape (CT); Part Status: Active; Voltage - Max: 15V; Mounting Type: Surface Mount; Package / Case: 1812 (4532 Metric), Concave; Size / Dimension: 0.179" L x 0.128" W (4.55mm x 3.24mm); Height - Seated (Max): -; Thickness (Max): 0.033" (0.85mm); Lead Spacing: -; ComponentLink1URL: http://www.bourns.com/docs/Product-Datasheets/mfmsmf.pdf; ComponentLink1Description: http://www.bourns.com/docs/Product-Datasheets/mfmsmf.pdf; Supplier Part Number 1: MF-MSMF050-2CT-ND
footprint Fuse 1812 (Molded Capacitor, 2-Leads, Body 4,55x3,24mm, IPC Medium Density)
pins: 1 VCC (power), 2 GND (power)

## Resonator
designator Y?, comment CSTCE16M0V53-R0  (value not drawn)
Link: http://www.digikey.com/product-detail/en/CSTCE16M0V53-R0/490-1198-1-ND/584635
footprint CSTCE
pins: 1, 2, 3

## SN754410NE
designator *
TEXAS INSTRUMENTS - SN754410NE - IC, PERIPHERAL DRIVER, HALF-H, 1A, DIP16; Supplier 1: Farnell; Manufacturer: TEXAS INSTRUMENTS; Manufacturer Part Number: SN754410NE; RoHS: YES; Stock 1: 1145; Pricing 1: 1=2,12, 10=1,61, 100=1,3, 250=1,29, 500=1,12, 1000=0,874, 3000=0,862, 6000=0,85 (GBP); ComponentLink1URL: http://www.ti.com/general/docs/lit/getliterature.tsp?genericPartNumber=SN754410&amp;&amp;fileType=pdf; ComponentLink1Description: http://www.ti.com/general/docs/lit/getliterature.tsp?genericPartNumber=SN754410&amp;&amp;fileType=pdf; ComponentLink2URL: http://www.farnell.com/cad/1613390.zip; ComponentLink2Description: http://www.farnell.com/cad/1613390.zip
pins: 1 PWM1, 2 1A, 3 1Y, 4 GND, 5 GND, 6 2Y, 7 2A, 8 VCC, 9 PWM2, 10 3A, 11 3Y, 12 GND, 13 GND, 14 4Y, 15 4A, 16 VCC

## SWITCH TACTILE SPST-NO 0.02A 15V
designator S?, comment SPST-NO  (value not drawn)
SWITCH TACTILE SPST-NO 0.02A 15V; Manufacturer: Panasonic Electronic Components; Manufacturer Part Number: EVQ-PAC07K; Switch Function: Off-Mom; Contact Rating @ Voltage: 0.02A @ 15VDC; Actuator Type: Standard; Actuator Height off PCB, from Pins: 7.00mm; Actuator Orientation: Top Actuated; Outline: 6.00mm x 6.00mm; Illumination: Non-Illuminated; Operating Force: 100gf; Switch Travel: 0.25mm; Mechanical Life: 100,000 Cycles; Supplier 1: Digi-Key; RoHS: RoHS Compliant; Category: Switches; Stock 1: 19805; Pricing 1: 1=0.27, 10=0.254, 25=0.2168, 50=0.1896, 100=0.176, 250=0.15572, 500=0.14894, 1000=0.12186, 5000=0.10832 (USD); Packaging: Bulk; Part Status: Active; Circuit: SPST-NO; Mounting Type: Through Hole; Termination Style: PC Pin; Illumination Voltage (Nominal): -; Illumination Type, Color: -; Ingress Protection: -; Features: -; Actuator Material: -; Operating Temperature: -20°C ~ 70°C; ComponentLink1URL: http://industrial.panasonic.com/cdbs/www-data/pdf/ATK0000/ATK0000CE10.pdf; ComponentLink1Description: http://industrial.panasonic.com/cdbs/www-data/pdf/ATK0000/ATK0000CE10.pdf; Supplier Part Number 1: P8011S-ND
footprint TACT SWITCH 6X6X7MM (Tactile Switch 6x6x7mm)
pins: 1, 2, 3, 4

## SWITCH TACTILE SPST-NO 0.05A 24V
designator BT?, comment SPST  (value not drawn)
SWITCH TACTILE SPST-NO 0.05A 24V; Manufacturer: TE Connectivity ALCOSWITCH Switches; Manufacturer Part Number: FSM2JSMAA; Switch Function: Off-Mom; Contact Rating @ Voltage: 0.05A @ 24VDC; Actuator Type: Standard; Actuator Height off PCB, from Pins: 4.30mm; Actuator Orientation: Top Actuated; Outline: 6.00mm x 6.00mm; Illumination: Non-Illuminated; Operating Force: 260gf; Actuator Material: Polyamide (PA), Nylon; Switch Travel: 0.25mm; Mechanical Life: 100,000 Cycles; Supplier 1: Digi-Key; RoHS: RoHS Compliant; Category: Switches; Stock 1: 1989; Pricing 1: 1=0.16, 10=0.159, 25=0.1532, 50=0.1476, 100=0.1394, 250=0.1312, 500=0.12574, 1000=0.09568 (USD); Packaging: Bulk; Part Status: Active; Circuit: SPST-NO; Mounting Type: Surface Mount; Termination Style: Gull Wing; Illumination Voltage (Nominal): -; Illumination Type, Color: -; Ingress Protection: -; Features: -; Operating Temperature: -35°C ~ 85°C; ComponentLink1URL: http://www.te.com/commerce/DocumentDelivery/DDEController?Action=srchrtrv&DocNm=2-1437565-7&DocType=Customer+Drawing&DocLang=English; ComponentLink1Description: http://www.te.com/commerce/DocumentDelivery/DDEController?Action=srchrtrv&DocNm=2-1437565-7&DocType=Customer+Drawing&DocLang=English; Supplier Part Number 1: FSM2JSMAA-ND
footprint TACTILE SWITCH 4.3MM
pins: 1, 2, 3, 4

## Test Point 1mm
designator TP?  (value not drawn)
footprint TEST POINT
pins: 1

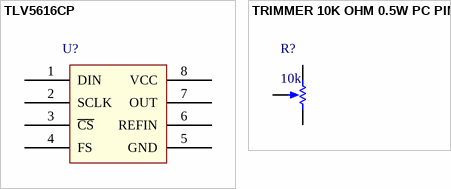
[diagram p1: symbols TLV5616CP to TRIMMER 10K OHM 0.5W PC PIN]

## TLV5616CP
designator U?, comment DAC 12bit  (value not drawn)
IC 12 BIT 3US DAC S/O 8-DIP; Manufacturer: Texas Instruments; Manufacturer Part Number: TLV5616CP; Number of Bits: 12; Number of D/A Converters: 1; Settling Time: 20µs; Output Type: Voltage - Buffered; Differential Output: No; Data Interface: SPI; Reference Type: External; Voltage - Supply, Analog: 2.7 V ~ 3.3 V, 5V; INL/DNL (LSB): ±1.9, ±0.5; Architecture: String DAC; Supplier 1: Digi-Key; RoHS: RoHS Compliant; Category: Integrated Circuits (ICs); Stock 1: 4700; Pricing 1: 1=8.03, 10=7.254, 100=6.0057, 500=5.2297, 1000=4.5549 (USD); Packaging: Tube; Part Status: Active; Voltage - Supply, Digital: 2.7 V ~ 3.3 V, 5V; Operating Temperature: 0°C ~ 70°C; Package / Case: 8-DIP (0.300", 7.62mm); Supplier Device Package: 8-PDIP; ComponentLink1URL: http://www.ti.com/lit/ds/symlink/tlv5616.pdf; ComponentLink1Description: http://www.ti.com/lit/ds/symlink/tlv5616.pdf; Supplier Part Number 1: 296-3041-5-ND
footprint P008 (DIP; 8 Leads; Row Spacing 7.62 mm; Pitch 2.54 mm)
pins: 1 DIN, 2 SCLK, 3 ~{CS}, 4 FS, 5 GND, 6 REFIN, 7 OUT, 8 VCC

## TRIMMER 10K OHM 0.5W PC PIN
designator R?, comment 10k
TRIMMER 10K OHM 0.5W PC PIN; Manufacturer: Bourns Inc.; Manufacturer Part Number: 3386P-1-103LF; Power (Watts): 0.5W, 1/2W; Tolerance: ±10%; Temperature Coefficient: ±100ppm/°C; Number of Turns: 1; Adjustment Type: Top Adjustment; Resistive Material: Cermet; Supplier 1: Digi-Key; RoHS: RoHS Compliant; Category: Potentiometers, Variable Resistors; Stock 1: 12594; Pricing 1: 1=1.6, 10=1.41, 25=1.2692, 50=1.222, 100=1.175, 250=1.10452, 500=0.94, 1000=0.8695, 5000=0.7144 (USD); Packaging: Tube; Part Status: Active; Resistance (Ohms): 10k; Mounting Type: Through Hole; Termination Style: PC Pins; Size / Dimension: Square - 0.375" x 0.375" Face x 0.190" H (9.53mm x 9.53mm x 4.83mm); ComponentLink1URL: http://www.bourns.com/docs/Product-Datasheets/3386.pdf; ComponentLink1Description: http://www.bourns.com/docs/Product-Datasheets/3386.pdf; Supplier Part Number 1: 3386P-103LF-ND
footprint TRIMPOT 3386 (Trimming Potentiometer; 3 leads; Vertical; Flat)
pins: 1 TOP, 2 TAP, 3 BOT